# EAGLE library part 53261-0671 (library 53261-0671)
Molex PICOBLADE Series, Series Number 53261, 1.25mm Pitch 6 Way 1 Row Right Angle PCB Header, Solder Termination, 1A <https://componentsearchengine.com/Images/3/53261-0671.jpg> Source: Datasheet <http://docs-europe.electrocomponents.com/webdocs/078f/0900766b8078fc7f.pdf>
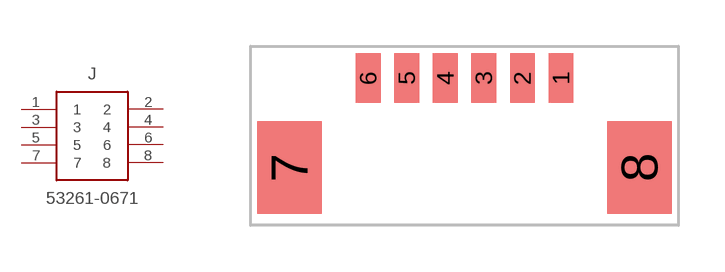
[diagram p0: symbol with the pads of 53261-0671; footprint 53261-0671]

Designator prefix J

## 53261-0671 (Description: Molex PICOBLADE Series, Series Number 53261, 1.25mm Pitch 6 Way 1 Row Right Angle PCB Header, Solder Termination, 1A; Height: mm; Manufacturer_Name: Molex; Manufacturer_Part_Number: 53261-0671; RS_Part_Number: 5427135P; Supplier_Name: RS)  [53261-0671]
1  1  pas
2  2  pas
3  3  pas
4  4  pas
5  5  pas
6  6  pas
7  7  pas
8  8  pas

## Footprint 53261-0671 (pad centres in mm)
53261-0671
smd 0.8 x 1.6: 1 0,0; 2 -1.25,0; 3 -2.5,0; 4 -3.75,0; 5 -5,0; 6 -6.25,0
smd 2.1 x 3: 7 -8.8,-2.9; 8 2.55,-2.9